# Altium integrated library Oscilator.IntLib: 21 symbols
Pins are listed as number, name and electrical type; pins without a type are passive.

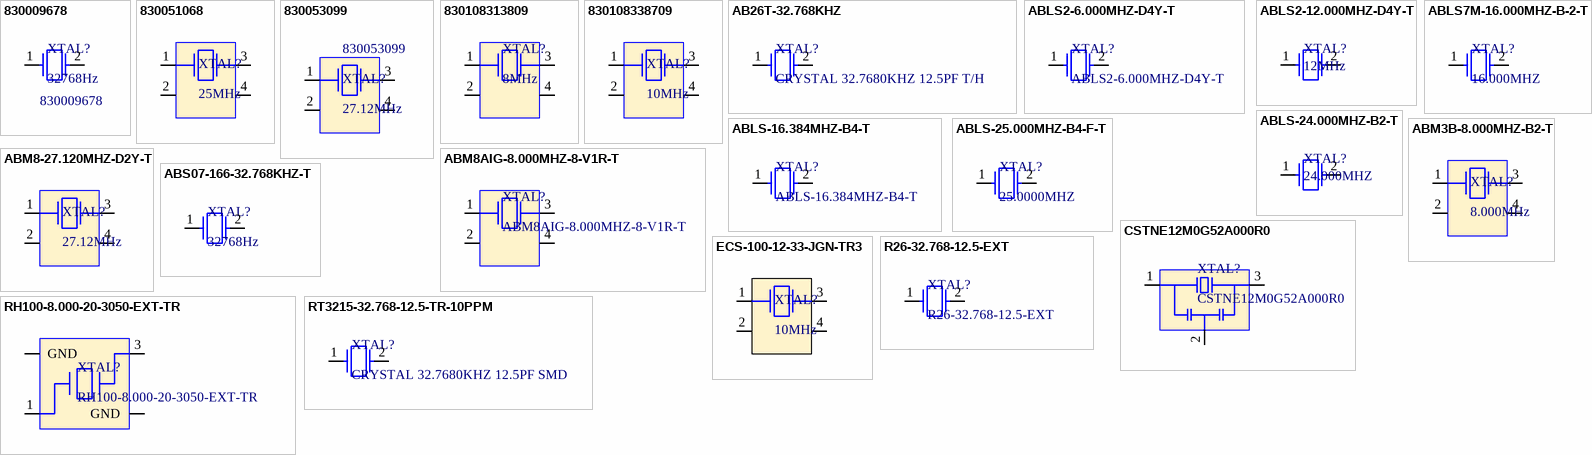
[diagram p0: symbols 830009678 to RT3215-32.768-12.5-TR-10PPM]

## 830009678
designator XTAL?, comment 32768Hz  Manufacturer Part Number: 830009678
32.7680 KHz, 12pF; Manufacturer: Wurth Electronics; Frequency: 32.768kHz; Frequency Tolerance: 20ppm; Load Capacitance: 12.5pF; Purpose Of Usage: BASIC; SAP Tanım: Crystal oscillators 830009678; Supplier 1: Digi-Key; RoHS: Yes; Supplier Part Number 1: 1923-830009678CT-ND; Case/Package: SMD; Category: OSCILATORS; Max Operating Temperature: 85°C; Min Operating Temperature: -40°C; Mount: SMD; Stock ID: 153300020045; Sub-Category: CRYSTAL; Local Supplier: Würth; Price 10K: 0.26
footprint 3.2mm X 1.5mm (2-Leads, Body 3.20x1.50mm, IPC Medium Density)
pins: 1, 2

## 830051068
designator XTAL?, comment 25MHz
WE-XTAL Quartz Crystal; Manufacturer: Wurth Electronics; Manufacturer Part Number: 830051068; Frequency Stability: 10ppm; Load Capacitance: 10pF; Purpose Of Usage: BASIC; SAP Tanım: We-Xtal Quartz Crystal 830051068; Supplier 1: Digi-Key; RoHS: Yes; Category: OSCILATORS; Supplier Part Number 1: 732-830051068TR-ND; Case/Package: SMD; Frequency: 25MHz; Frequency Tolerance: 10ppm; Local Supplier: Würth; Max Operating Temperature: 70°C; Min Operating Temperature: -20°C; Mount: SMD; Price 10K: 0.41; Stock ID: 153300020127; Sub-Category: CRYSTAL
footprint 3.2X2.5_KX-7
pins: 1, 2 GND, 3, 4 GND

## 830053099
designator XTAL?, comment 27.12MHz  Manufacturer Part Number: 830053099
27.12MHz, 10pF; Manufacturer: Wurth Electronics; Frequency Stability: 10ppm; Purpose Of Usage: BASIC; SAP Tanım: Crystal oscillators 830053099; Supplier 1: Digi-Key; RoHS: Yes; Supplier Part Number 1: 732-830053099TR-ND; Case/Package: SMD; Category: OSCILATORS; Frequency: 27.12MHz; Frequency Tolerance: 10ppm; Load Capacitance: 10pF; Max Operating Temperature: 70°C; Min Operating Temperature: -20°C; Mount: SMD; Stock ID: 153300020032; Sub-Category: CRYSTAL; Local Supplier: Würth
footprint 3.2X2.5_KX-7
pins: 1, 2 GND, 3, 4 GND

## 830108313809
designator XTAL?, comment 8MHz
8.0000MHZ 12PF SMD; Manufacturer: Wurth Electronics; Manufacturer Part Number: 830108313809; Frequency Stability: 50ppm; Frequency Tolerance: 30ppm; Purpose Of Usage: BASIC; SAP Tanım: Crystal oscillators 830108313809; Supplier 1: Digi-Key; RoHS: No; Supplier Part Number 1: 732-830108313809CT-ND; Case/Package: SMD; Category: OSCILATORS; Frequency: 8MHz; Load Capacitance: 12pF; Max Operating Temperature: 85°C; Min Operating Temperature: -40°C; Mount: SMD; Stock ID: 153300020009; Sub-Category: CRYSTAL; Local Supplier: Würth; Price 10K: 0.41
footprint 3.2X2.5_KX-7
pins: 1, 2 GND, 3, 4 GND

## 830108338709
designator XTAL?, comment 10MHz
10.0000MHz, 12pF, SMD; Manufacturer: Wurth Electronics; Manufacturer Part Number: 830108338709; Frequency Stability: 50ppm; Frequency Tolerance: 10ppm; Purpose Of Usage: BASIC; SAP Tanım: Crystal oscillators 830108338709; Supplier 1: Digi-Key; RoHS: No; Supplier Part Number 1: 732-830108338709TR-ND; Case/Package: SMD; Category: OSCILATORS; Frequency: 10MHz; Load Capacitance: 12pF; Max Operating Temperature: 105°C; Min Operating Temperature: -40°C; Mount: SMD; Stock ID: 153300020037; Sub-Category: CRYSTAL; Local Supplier: Würth; Price 10K: 0.37
footprint 3.2X2.5_KX-7
pins: 1, 2 GND, 3, 4 GND

## AB26T-32.768KHZ
designator XTAL?, comment CRYSTAL 32.7680KHZ 12.5PF T/H
Manufacturer: Abracon; Manufacturer Part Number: AB26T-32.768KHZ; Frequency: 32.768kHz; Frequency Tolerance: 20ppm; Purpose Of Usage: BASIC; Supplier 1: Digi-Key; Supplier Part Number 1: 535-9032-ND; RoHS: Yes; Mount: THT; Case/Package: RADIAL; Min Operating Temperature: -10°C; Max Operating Temperature: 60°C; Load Capacitance: 12.5pF; Frequency Stability: 20ppm; Category: OSCILATORS; Sub-Category: CRYSTAL; Stock ID: ??; SAP Tanım: -; LCSC Part Number: C13712
footprint ForkCrystal
pins: 1, 2

## ABLS2-6.000MHZ-D4Y-T
designator XTAL?
Crystal 6MHz 18pF 30ppm 2-Pin HC-49/US T/R; Manufacturer: Abracon; Purpose Of Usage: BASIC; Supplier 1: Digi-Key; Manufacturer Part Number: ABLS2-6.000MHZ-D4Y-T; RoHS: Yes; Mount: SMD; Min Operating Temperature: -40°C; Max Operating Temperature: 85°C; Frequency: 6MHz; Load Capacitance: 18pF; Frequency Tolerance: 30ppm; Frequency Stability: 30ppm; Supplier Part Number 1: 535-9861-1-ND; Category: OSCILATORS; Case/Package: SMD; Sub-Category: CRYSTAL; Stock ID: ??; SAP Tanım: -
footprint CrystalSMD
pins: 1, 2

## ABLS2-12.000MHZ-D4Y-T
designator XTAL?, comment 12MHz
12MHZ, 18PF, HC-49US; Manufacturer: Abracon; Manufacturer Part Number: ABLS2-12.000MHZ-D4Y-T; Frequency Stability: 30ppm; Purpose Of Usage: BASIC; Supplier 1: Digi-Key; Supplier Part Number 1: 535-9869-1-ND; RoHS: Yes; Mount: SMD; Min Operating Temperature: -40°C; Max Operating Temperature: 85°C; Frequency: 12MHz; Load Capacitance: 18pF; Frequency Tolerance: 30ppm; Category: OSCILATORS; Case/Package: SMD; Sub-Category: CRYSTAL; Stock ID: ??; SAP Tanım: -
footprint CrystalSMD
pins: 1, 2

## ABLS7M-16.000MHZ-B-2-T
designator XTAL?, comment 16.000MHZ
CRYSTAL 16.0000MHZ 18PF SMD; Manufacturer: Abracon; Manufacturer Part Number: ABLS7M-16.000MHZ-B-2-T; Frequency: 16MHz; Frequency Stability: 50ppm; Frequency Tolerance: 20ppm; Purpose Of Usage: BASIC; Supplier 1: Digi-Key; Supplier Part Number 1: 535-13416-1-ND; RoHS: Yes; Mount: SMD; Case/Package: SMD; Min Operating Temperature: -20°C; Max Operating Temperature: 70°C; Load Capacitance: 18pF; Category: OSCILATORS; Sub-Category: CRYSTAL; Stock ID: ??; SAP Tanım: -
footprint CrystalSMD
pins: 1, 2

## ABLS-16.384MHZ-B4-T
designator XTAL?
CRYSTAL 16.3840MHZ 18PF SMD; Manufacturer: Abracon; Frequency Tolerance: 30ppm; Frequency Stability: 50ppm; Purpose Of Usage: BASIC; Supplier 1: Digi-Key; Supplier Part Number 1: 535-10227-1-ND; Manufacturer Part Number: ABLS-16.384MHZ-B4-T; RoHS: Yes; Mount: SMD; Case/Package: SMD; Min Operating Temperature: -20°C; Max Operating Temperature: 70°C; Frequency: 16.384MHz; Load Capacitance: 18pF; Category: OSCILATORS; Sub-Category: CRYSTAL; Stock ID: ??; SAP Tanım: -
footprint CrystalSMD
pins: 1, 2

## ABLS-24.000MHZ-B2-T
designator XTAL?, comment 24.000MHZ
CRYSTAL 24.0000MHZ 18PF SMD; Manufacturer: Abracon; Manufacturer Part Number: ABLS-24.000MHZ-B2-T; Frequency: 24MHz; Frequency Tolerance: 20ppm; Frequency Stability: 50ppm; Purpose Of Usage: BASIC; Supplier 1: Digi-Key; RoHS: Yes; Mount: SMD; Case/Package: SMD; Min Operating Temperature: -20°C; Max Operating Temperature: 70°C; Load Capacitance: 18pF; Supplier Part Number 1: 535-9076-1-ND; Category: OSCILATORS; Sub-Category: CRYSTAL; Stock ID: ??; SAP Tanım: -
footprint CrystalSMD
pins: 1, 2

## ABLS-25.000MHZ-B4-F-T
designator XTAL?, comment 25.0000MHZ
CRYSTAL 25.0000MHZ 18PF SMD; Manufacturer: Abracon; Manufacturer Part Number: ABLS-25.000MHZ-B4-F-T; Frequency: 25MHz; Frequency Tolerance: 30ppm; Frequency Stability: 50ppm; Purpose Of Usage: BASIC; Supplier 1: Digi-Key; Supplier Part Number 1: 535-10235-1-ND; RoHS: Yes; Mount: SMD; Case/Package: SMD; Min Operating Temperature: -20°C; Max Operating Temperature: 70°C; Load Capacitance: 18pF; Category: OSCILATORS; Sub-Category: CRYSTAL; Stock ID: ??; SAP Tanım: -
footprint CrystalSMD
pins: 1, 2

## ABM3B-8.000MHZ-B2-T
designator XTAL?, comment 8.000MHz
CRYSTAL, 8.000Mhz, 18pF, SMD; Manufacturer: Abracon; Manufacturer Part Number: ABM3B-8.000MHZ-B2-T; Frequency: 8MHz; Frequency Tolerance: 20ppm; Frequency Stability: 50ppm; Purpose Of Usage: BASIC; Supplier 1: Digi-Key; RoHS: Yes; Category: OSCILATORS; Mount: SMD; Case/Package: SMD; Min Operating Temperature: -20°C; Max Operating Temperature: 70°C; Load Capacitance: 18pF; Supplier Part Number 1: 535-9720-1-ND; Sub-Category: CRYSTAL; Stock ID: ??; SAP Tanım: -
footprint 5 x 3,2
pins: 1, 2 GND, 3, 4 GND

## ABM8-27.120MHZ-D2Y-T
designator XTAL?, comment 27.12MHz
CRYSTAL 27.12MHz 18pF SMD; Manufacturer: Abracon; Manufacturer Part Number: ABM8-27.120MHZ-D2Y-T; Frequency Tolerance: 20ppm; Load Capacitance: 20pF; Purpose Of Usage: BASIC; Supplier 1: Digi-Key; RoHS: Yes; Category: OSCILATORS; Supplier Part Number 1: 535-14986-1-ND; Case/Package: SMD; Frequency: 27.12MHz; Mount: SMD; Sub-Category: CRYSTAL; Stock ID: ??; SAP Tanım: -
footprint 3.2X2.5_KX-7
pins: 1, 2 GND, 3, 4 GND

## ABM8AIG-8.000MHZ-8-V1R-T
designator XTAL?
Crystal, Aec-Q200, 8Mhz, 8Pf, 3.2 X 2.5Mm Rohs Compliant: Yes; Manufacturer: Abracon; Frequency Tolerance: 10ppm; Purpose Of Usage: BASIC; Supplier 1: Digi-Key; Manufacturer Part Number: ABM8AIG-8.000MHZ-8-V1R-T; RoHS: Yes; Supplier Part Number 1: 535-15255-1-ND; Case/Package: SMD; Category: OSCILATORS; Frequency: 8MHz; Load Capacitance: 8pF; Max Operating Temperature: 105°C; Min Operating Temperature: -40°C; Mount: SMD; Stock ID: ??; Sub-Category: CRYSTAL; SAP Tanım: -
footprint 3.2X2.5_KX-7
pins: 1, 2 GND, 3, 4 GND

## ABS07-166-32.768KHZ-T
designator XTAL?, comment 32768Hz
CRYSTAL 32.768KHz 12.5pF SMD; Manufacturer: Abracon; Manufacturer Part Number: ABS07-166-32.768KHZ-T; Frequency Tolerance: 10ppm; Load Capacitance: 7pF; Purpose Of Usage: BASIC; Supplier 1: Digi-Key; RoHS: Yes; Category: OSCILATORS; Mount: SMD; Case/Package: SMD; Min Operating Temperature: -40°C; Max Operating Temperature: 85°C; Frequency: 32.768kHz; Supplier Part Number 1: 535-14514-1-ND; Sub-Category: CRYSTAL; Stock ID: ??; SAP Tanım: -
footprint 3.2mm X 1.5mm (2-Leads, Body 3.20x1.50mm, IPC Medium Density)
pins: 1, 2

## CSTNE12M0G52A000R0
designator XTAL?
Ceramic Resonator 12MHz ±0.5% (Tol) ±0.2% (Stability) 10pF 30Ohm Automotive 3-Pin SMD T/R; Manufacturer: Murata; Purpose Of Usage: BASIC; Supplier 1: Digi-Key; Manufacturer Part Number: CSTNE12M0G52A000R0; RoHS: Yes; Mount: SMD; Case/Package: SMD; Min Operating Temperature: -40°C; Max Operating Temperature: 125°C; Frequency: 12MHz; Frequency Stability: 0.2%; Frequency Tolerance: 0.5%; Category: OSCILATORS; Supplier Part Number 1: CSTNE12M0G52A000R0-ND; Load Capacitance: 10pF; Sub-Category: RESENATOR; Stock ID: ??; SAP Tanım: -
footprint OSC_CSTNE12M0G52A000R0
pins: 1 IN, 2 GND, 3 OUT

## ECS-100-12-33-JGN-TR3
designator XTAL?, comment 10MHz
Crystal 10MHz 12pF 4-Pin Miniature CSMD T/R; Manufacturer: ECS International; Manufacturer Part Number: ECS-100-12-33-JGN-TR3; Frequency Stability: 50ppm; Purpose Of Usage: BASIC; Supplier 1: Digi-Key; RoHS: No; Category: OSCILATORS; Supplier Part Number 1: 50-ECS-100-12-33-JGN-TR3CT-ND; Case/Package: SMD; Frequency: 10MHz; Frequency Tolerance: 50ppm; Load Capacitance: 12pF; Max Operating Temperature: 70°C; Min Operating Temperature: -20°C; Mount: SMD; Stock ID: ??; Sub-Category: CRYSTAL; Local Supplier: Future; Price 10K: 0.2; SAP Tanım: -
footprint 3.2X2.5_KX-7
pins: 1, 2 GND, 3, 4 GND

## R26-32.768-12.5-EXT
designator XTAL?
R26 Series 0.032768 ±20 ppm 12.5pF -40°C TO +85°C Thru-Hole Tuning Fork Crystal; Manufacturer: Raltron Electronics; Frequency Tolerance: 10ppm; Frequency: 32.768kHz; Frequency Stability: 20ppm; Purpose Of Usage: BASIC; Manufacturer Part Number: R26-32.768-12.5-EXT; RoHS: Yes; Min Operating Temperature: -40°C; Max Operating Temperature: 85°C; Load Capacitance: 12.5pF; Case/Package: RADIAL; Category: OSCILATORS; LCSC Part Number: C13712; Local Supplier: OZDISAN; Mount: THT; Price 10K: 0.11; SAP Tanım: -; Stock ID: ??; Sub-Category: CRYSTAL; Supplier 1: Digi-Key; Supplier Part Number 1: 2151-R26-32.768-12.5-EXT-ND
footprint ForkCrystal
pins: 1, 2

## RH100-8.000-20-3050-EXT-TR
designator XTAL?
Crystal 8.0000MHZ 20PF SMD; Manufacturer: Raltron Electronics; Frequency: 8MHz; Frequency Tolerance: 20ppm; Purpose Of Usage: BASIC; Supplier 1: Digi-Key; Manufacturer Part Number: RH100-8.000-20-3050-EXT-TR; RoHS: Yes; Category: OSCILATORS; Supplier Part Number 1: 2151-RH100-8.000-20-3050-EXT-TRCT-ND; Case/Package: SMD; Load Capacitance: 20pF; Mount: SMD; Sub-Category: CRYSTAL; Stock ID: ??; SAP Tanım: -
footprint 3.2X2.5_KX-7
pins: 1, 2 GND, 3, 4 GND

## RT3215-32.768-12.5-TR-10PPM
designator XTAL?, comment CRYSTAL 32.7680KHZ 12.5PF SMD
RT3215 Series 0.032768 ±10 ppm 12.5pF -40°C TO +85°C SMT Tuning Fork Crystal; Manufacturer: Raltron Electronics; Manufacturer Part Number: RT3215-32.768-12.5-TR-10PPM; Frequency: 32.768kHz; Frequency Tolerance: 10ppm; Purpose Of Usage: BASIC; Supplier 1: Digi-Key; Category: OSCILATORS; Supplier Part Number 1: 2151-RT3215-32.768-12.5-TR-10PPMTR-ND; Case/Package: SMD; Load Capacitance: 12.5pF; Mount: SMD; RoHS: Yes; Sub-Category: CRYSTAL; Stock ID: ??; SAP Tanım: -
footprint 3.2mm X 1.5mm (2-Leads, Body 3.20x1.50mm, IPC Medium Density)
pins: 1, 2